# Altium schematic symbol library IIOT_GATEWAY_MT7621.SCHLIB: 180 symbols (part 2 of 2)
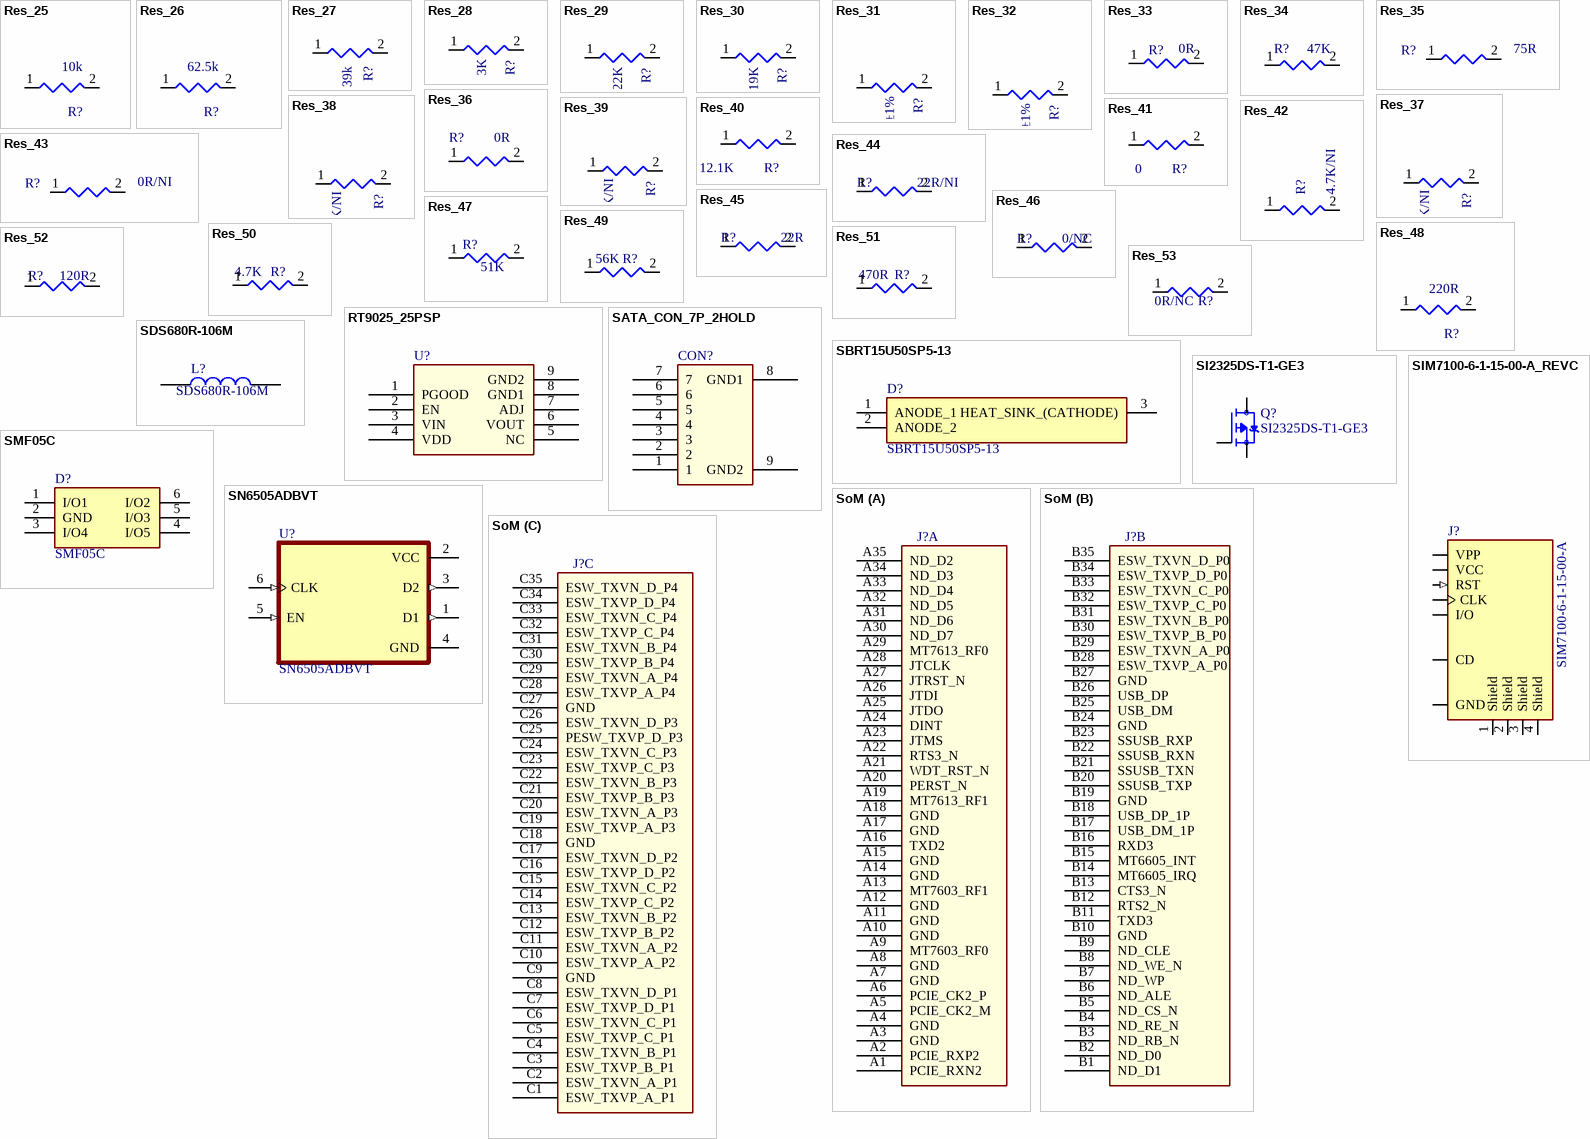
[diagram p5: symbols Res_25 to SoM]

## SIM7100-6-1-15-00-A_REVC
designator J?, comment SIM7100-6-1-15-00-A
7 _6 + 1_ Position Card Connector Micro SIM Surface Mount, Right Angle Gold; MF: Global Connector Technology; Package: None; Availability: Unavailable; SnapEDA_Link: https://www.snapeda.com/parts/SIM7100-6-1-15-00-A/Global%20Connector%20Technology/view-part/449163/?ref=snap; MP: SIM7100-6-1-15-00-A; Price: None; Value: *
footprint GCT_SIM7100-6-1-15-00-A_REVC
pins: 1 Shield, 2 Shield, 3 Shield, 4 Shield, C1 VCC (power), C2 RST (in), C3 CLK (io), C5 GND (power), C6 VPP (power), C7 I/O (io), CD

## SMF05C
designator D?
Diode; Manufacturer_Name: SEMTECH; Datasheet Link: https://semtech.my.salesforce.com/sfc/p/E0000000JelG/a/2R000000HTur/oh5IBNMxy439tUCWCfUixX8WnZBmvf43yHAHJowoBrc; Height: 1.1mm; Manufacturer_Part_Number: SMF05C
footprint SOT65P210X110-6N
pins: 1 I/O1, 2 GND, 3 I/O4, 4 I/O5, 5 I/O3, 6 I/O2

## SN6505ADBVT
designator U?
Low-noise, 1-A, 160-kHz transformer driver with soft start for isolated power supplies 6-SOT-23 -55 to 125; MF: Texas Instruments; Texas_Instruments-Purchase-URL: https://snapeda.com/shop?store=Texas+Instruments&id=779078; Value: *; Availability: Unavailable; SnapEDA_Link: https://www.snapeda.com/parts/SN6505ADBVT/Texas%20Instruments/view-part/779078/?ref=snap; Package: SOT-23-6 Texas Instruments; MP: SN6505ADBVT; Price: None; BuyPart: https://www.snapeda.com/parts/SN6505ADBVT/Texas%20Instruments/view-part/779078/?ref=eda
footprint SOT95P280X145-6N
pins: 1 D1 (out), 2 VCC (power), 3 D2 (out), 4 GND (power), 5 EN (in), 6 CLK (in)

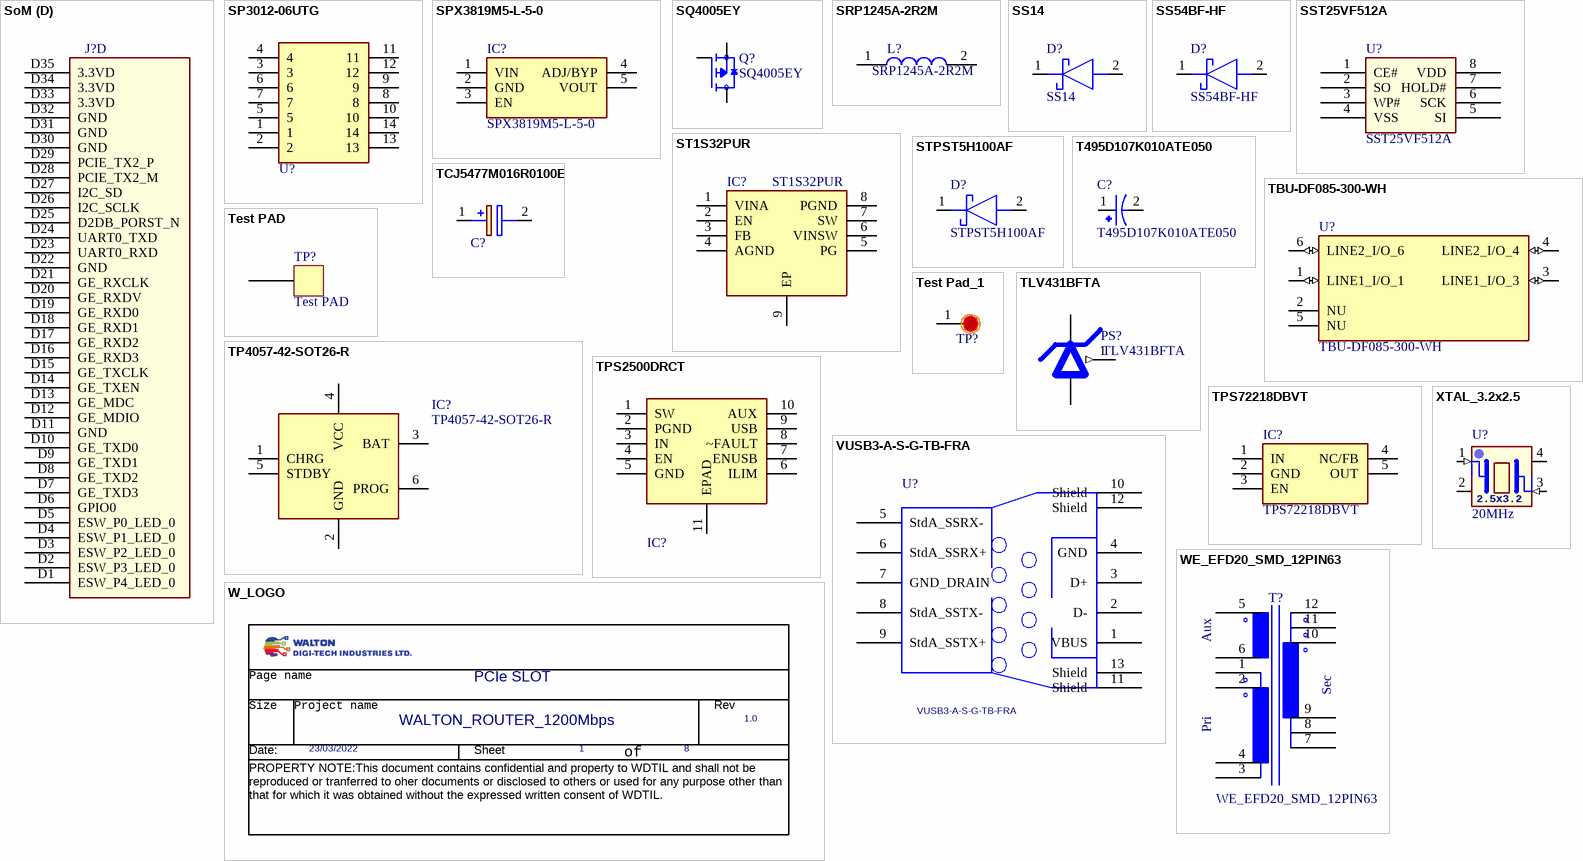
[diagram p4: symbols SoM to XTAL_3.2x2.5]

## SoM
designator J?  (value not drawn)
System: connector
footprint SoM (QFP, 140-Leads, Body 50.00x50.00mm, Pitch 1.27mm, IPC Medium Density)
part A pins: A1 PCIE_RXN2, A2 PCIE_RXP2, A3 GND, A4 GND, A5 PCIE_CK2_M, A6 PCIE_CK2_P, A7 GND, A8 GND, A9 MT7603_RF0, A10 GND, A11 GND, A12 GND, A13 MT7603_RF1, A14 GND, A15 GND, A16 TXD2, A17 GND, A18 GND, A19 MT7613_RF1, A20 PERST_N, A21 WDT_RST_N, A22 RTS3_N, A23 JTMS, A24 DINT, A25 JTDO, A26 JTDI, A27 JTRST_N, A28 JTCLK, A29 MT7613_RF0, A30 ND_D7, A31 ND_D6, A32 ND_D5, A33 ND_D4, A34 ND_D3, A35 ND_D2
part B pins: B1 ND_D1, B2 ND_D0, B3 ND_RB_N, B4 ND_RE_N, B5 ND_CS_N, B6 ND_ALE, B7 ND_WP, B8 ND_WE_N, B9 ND_CLE, B10 GND, B11 TXD3, B12 RTS2_N, B13 CTS3_N, B14 MT6605_IRQ, B15 MT6605_INT, B16 RXD3, B17 USB_DM_1P, B18 USB_DP_1P, B19 GND, B20 SSUSB_TXP, B21 SSUSB_TXN, B22 SSUSB_RXN, B23 SSUSB_RXP, B24 GND, B25 USB_DM, B26 USB_DP, B27 GND, B28 ESW_TXVP_A_P0, B29 ESW_TXVN_A_P0, B30 ESW_TXVP_B_P0, B31 ESW_TXVN_B_P0, B32 ESW_TXVP_C_P0, B33 ESW_TXVN_C_P0, B34 ESW_TXVP_D_P0, B35 ESW_TXVN_D_P0
part C pins: C1 ESW_TXVP_A_P1, C2 ESW_TXVN_A_P1, C3 ESW_TXVP_B_P1, C4 ESW_TXVN_B_P1, C5 ESW_TXVP_C_P1, C6 ESW_TXVN_C_P1, C7 ESW_TXVP_D_P1, C8 ESW_TXVN_D_P1, C9 GND, C10 ESW_TXVP_A_P2, C11 ESW_TXVN_A_P2, C12 ESW_TXVP_B_P2, C13 ESW_TXVN_B_P2, C14 ESW_TXVP_C_P2, C15 ESW_TXVN_C_P2, C16 ESW_TXVP_D_P2, C17 ESW_TXVN_D_P2, C18 GND, C19 ESW_TXVP_A_P3, C20 ESW_TXVN_A_P3, C21 ESW_TXVP_B_P3, C22 ESW_TXVN_B_P3, C23 ESW_TXVP_C_P3, C24 ESW_TXVN_C_P3, C25 PESW_TXVP_D_P3, C26 ESW_TXVN_D_P3, C27 GND, C28 ESW_TXVP_A_P4, C29 ESW_TXVN_A_P4, C30 ESW_TXVP_B_P4, C31 ESW_TXVN_B_P4, C32 ESW_TXVP_C_P4, C33 ESW_TXVN_C_P4, C34 ESW_TXVP_D_P4, C35 ESW_TXVN_D_P4
part D pins: D1 ESW_P4_LED_0, D2 ESW_P3_LED_0, D3 ESW_P2_LED_0, D4 ESW_P1_LED_0, D5 ESW_P0_LED_0, D6 GPIO0, D7 GE_TXD3, D8 GE_TXD2, D9 GE_TXD1, D10 GE_TXD0, D11 GND, D12 GE_MDIO, D13 GE_MDC, D14 GE_TXEN, D15 GE_TXCLK, D16 GE_RXD3, D17 GE_RXD2, D18 GE_RXD1, D19 GE_RXD0, D20 GE_RXDV, D21 GE_RXCLK, D22 GND, D23 UART0_RXD, D24 UART0_TXD, D25 D2DB_PORST_N, D26 I2C_SCLK, D27 I2C_SD, D28 PCIE_TX2_M, D29 PCIE_TX2_P, D30 GND, D31 GND, D32 GND, D33 3.3VD, D34 3.3VD, D35 3.3VD

## SP3012-06UTG
designator U?, comment SP3011-06UTG  (value not drawn)
7V _Typ_ Clamp 4A _8/20Âµs_ Ipp Tvs Diode Surface Mount 14-UDFN _3.5x1.35_; MP: SP3012-06UTG; MF: Littelfuse Inc.; Price: None; Availability: Unavailable; Package: UDFN-14 Littelfuse; SnapEDA_Link: https://www.snapeda.com/parts/SP3012-06UTG/Littelfuse%20Inc./view-part/481186/?ref=snap; Value: *
footprint SON50P350X135X55-14N
pins: 1, 2, 3, 4, 5, 6, 7, 8, 9, 10, 11, 12, 13, 14

## SPX3819M5-L-5-0
designator IC?
Integrated Circuit; Manufacturer_Name: EXAR; Datasheet Link: http://www.farnell.com/datasheets/1829986.pdf; Height: 1.45mm; Manufacturer_Part_Number: SPX3819M5-L-5-0; Arrow Part Number: SPX3819M5-L-5-0; Arrow Price/Stock: https://www.arrow.com/en/products/spx3819m5-l-5-0/exar
footprint SOT95P280X145-5N
pins: 1 VIN, 2 GND, 3 EN, 4 ADJ/BYP, 5 VOUT

## SQ4005EY
designator Q?
MOSFET P Ch -12Vds 8Vgs
footprint SOIC127P600X175-8N
pins: 1 S, 2 S, 3 S, 4 G, 5 D, 6 D, 7 D, 8 D

## SRP1245A-2R2M
designator L?
Inductor 2.2uH; Manufacturer_Name: Bourns; Datasheet Link: https://www.bourns.com/docs/Product-Datasheets/SRP1245A.pdf; Height: 5mm; Manufacturer_Part_Number: SRP1245A-2R2M; Mouser Part Number: 652-SRP1245A-2R2M; Mouser Price/Stock: https://www.mouser.co.uk/ProductDetail/Bourns/SRP1245A-2R2M?qs=7z%252BmIopC6%2FIfpuWA3q0S0Q%3D%3D; Arrow Part Number: SRP1245A-2R2M; Arrow Price/Stock: https://www.arrow.com/en/products/srp1245a-2r2m/bourns?region=nac
footprint INDPM135125X500N
pins: 1, 2

## SS14
designator D?
Schottky Diode; Manufacturer_Name: MULTICOMP; Datasheet Link: https://componentsearchengine.com/Datasheets/2/SS14.pdf; Height: 2.61mm; Manufacturer_Part_Number: SS14
footprint DIOM5127X261N
pins: 1 K, 2 A

## SS54BF-HF
designator D?
Schottky Diode; Manufacturer_Name: Comchip Technology; Datasheet Link: https://www.mouser.co.uk/datasheet/2/80/20190807092834-2504956.pdf; Height: 1.3mm; Manufacturer_Part_Number: SS54BF-HF; Mouser Part Number: 750-SS54BF-HF; Mouser Price/Stock: https://www.mouser.co.uk/ProductDetail/Comchip-Technology/SS54BF-HF?qs=GBLSl2AkirsPcLFwlU2Ctg%3D%3D; Arrow Part Number: SS54BF-HF; Arrow Price/Stock: https://www.arrow.com/en/products/ss54bf-hf/comchip-technology?region=nac
footprint SODFL5336X130N (Footprint not found)
pins: 1 K, 2 A

## SST25VF512A
designator U?
512 Kbit SPI Serial Flash
footprint SO-8
pins: 1 CE#, 2 SO, 3 WP#, 4 VSS, 5 SI, 6 SCK, 7 HOLD#, 8 VDD

## ST1S32PUR
designator IC?
Integrated Circuit; Manufacturer_Name: STMicroelectronics; Datasheet Link: http://www.st.com/web/en/resource/technical/document/datasheet/DM00056321.pdf; Height: 1mm; Manufacturer_Part_Number: ST1S32PUR; Mouser Part Number: 511-ST1S32PUR; Mouser Price/Stock: https://www.mouser.co.uk/ProductDetail/STMicroelectronics/ST1S32PUR?qs=gNDSiZmRJS9JfBN%2Fr%252BmKGQ%3D%3D; Arrow Part Number: ST1S32PUR; Arrow Price/Stock: https://www.arrow.com/en/products/st1s32pur/stmicroelectronics?region=europe
footprint SON80P400X400X100-9N-D (Footprint not found)
pins: 1 VINA, 2 EN, 3 FB, 4 AGND, 5 PG, 6 VINSW, 7 SW, 8 PGND, 9 EP

## STPST5H100AF
designator D?
Schottky Diode; Manufacturer_Name: STMicroelectronics; Datasheet Link: https://www.st.com/resource/en/datasheet/stpst5h100.pdf; Height: 1.03mm; Manufacturer_Part_Number: STPST5H100AF; Mouser Part Number: 511-STPST5H100AF; Mouser Price/Stock: https://www.mouser.co.uk/ProductDetail/STMicroelectronics/STPST5H100AF?qs=Jm2GQyTW%2Fbg40alT%252BULHUw%3D%3D
footprint SODFL4724X103N
pins: 1 K, 2 A

## T495D107K010ATE050
designator C?
Cap Tant Solid 100uF 10V D CASE 10% (7.3 X 4.3 X 2.8mm) SMD 7343-31 0.05 Ohm 125°C T/R; Manufacturer: KEMET; ESR (Equivalent Series Resistance): 50mR; Polarity: Polar; Life (Hours): 2000Hour; Dissipation Factor: 8%; Supplier 1: Newark; Manufacturer Part Number: T495D107K010ATE050; RoHS: Yes; Category: Tantalum Capacitors; Stock 1: 224; Pricing 1: 1=2.46000, 10=2.00000, 25=1.84000, 50=1.69000, 100=1.53000 (USD); Mount: Surface Mount; Case/Package: 2917; Number of Pins: 2; Case Code (Imperial): 2917; Case Code (Metric): 7343; Min Operating Temperature: -55°C; Max Operating Temperature: 125°C; Packaging: Tape and Reel; Capacitance: 100uF; Tolerance: 10%; Voltage Rating: 10V; Package Quantity: 500; Termination: SMD/SMT; Voltage Rating (DC): 10V; Features: General Purpose; Series: T495; Construction: Flat; Length: 7.3mm; Width: 4.3mm; Height: 3.1mm; Height - Seated (Max): 0.122inch; Depth: 4.3mm; Radiation Hardening: No; REACH SVHC: No SVHC; RoHS Compliant: Yes; ComponentLink1URL: http://www.farnell.com/datasheets/2319914.pdf?src-supplier=Farnell; ComponentLink1Description: http://www.farnell.com/datasheets/2319914.pdf?src-supplier=Farnell; ComponentLink2URL: http://www.mouser.com/ds/2/212/KEM_T2071_T495_COTS-1104607.pdf?src-supplier=Mouser; ComponentLink2Description: http://www.mouser.com/ds/2/212/KEM_T2071_T495_COTS-1104607.pdf?src-supplier=Mouser; ComponentLink3URL: http://www.farnell.com/datasheets/2015705.pdf?src-supplier=Farnell; ComponentLink3Description: http://www.farnell.com/datasheets/2015705.pdf?src-supplier=Farnell; ComponentLink4URL: http://www.farnell.com/datasheets/2015705.pdf?src-supplier=Element14; ComponentLink4Description: http://www.farnell.com/datasheets/2015705.pdf?src-supplier=Element14; ComponentLink5URL: https://api.kemet.com/component-edge/download/datasheet/T495D107K010ASE100.pdf?src-supplier=Digi-Key; ComponentLink5Description: https://api.kemet.com/component-edge/download/datasheet/T495D107K010ASE100.pdf?src-supplier=Digi-Key; ComponentLink6URL: http://www.kemet.com/Lists/ProductCatalog/Attachments/261/KEM_T2009_T495.pdf?src-supplier=Avnet; ComponentLink6Description: http://www.kemet.com/Lists/ProductCatalog/Attachments/261/KEM_T2009_T495.pdf?src-supplier=Avnet; ComponentLink7URL: http://www.kemet.com/kemet/web/homepage/kechome.nsf/weben/1AABD97F96BDDBDA8525795A0050FFCA/$file/KEM_T2009_T495.pdf?src-supplier=Avnet; ComponentLink7Description: http://www.kemet.com/kemet/web/homepage/kechome.nsf/weben/1AABD97F96BDDBDA8525795A0050FFCA/$file/KEM_T2009_T495.pdf?src-supplier=Avnet; ComponentLink8URL: http://www.farnell.com/datasheets/2319914.pdf?src-supplier=Newark; ComponentLink8Description: http://www.farnell.com/datasheets/2319914.pdf?src-supplier=Newark; ComponentLink9URL: http://components.arrow.com/part/dataview/44988739S8665845N7429?src-supplier=Arrow+Electronics; ComponentLink9Description: http://components.arrow.com/part/dataview/44988739S8665845N7429?src-supplier=Arrow+Electronics; Supplier Part Number 1: 77Y7860
footprint CAP_4TAE470ML
pins: 1, 2

## TBU-DF085-300-WH
designator U?
DUAL BI-DIR TBU 850V 300MA; MF: Bourns Inc.; SnapEDA_Link: https://www.snapeda.com/parts/TBU-DF085-300-WH/Bourns/view-part/?ref=snap; Availability: In Stock; Purchase-URL: https://pricing.snapeda.com/search/part/TBU-DF085-300-WH/?ref=eda; Check_prices: https://www.snapeda.com/parts/TBU-DF085-300-WH/Bourns/view-part/?ref=eda; Value: *; Package: TDFN-6 Bourns Inc.; MP: TBU-DF085-300-WH; Price: None
footprint IC_TBU-DF085-300-WH
pins: 1 LINE1_I/O_1 (io), 2 NU, 3 LINE1_I/O_3 (io), 4 LINE2_I/O_4 (io), 5 NU, 6 LINE2_I/O_6 (io)

## TCJ5477M016R0100E
designator C?, comment TCJ5477M016R0100E/NI  (value not drawn)
Capacitor Polarised; Manufacturer_Name: AVX; Datasheet Link: https://datasheets.kyocera-avx.com/TCJ.pdf; Height: 4mm; Manufacturer_Part_Number: TCJ5477M016R0100E; Mouser Part Number: 581-TCJ5477M016R100E; Mouser Price/Stock: https://www.mouser.co.uk/ProductDetail/AVX/TCJ5477M016R0100E?qs=hWgE7mdIu5QV3CO1kSXQRw%3D%3D
footprint CAPPM7344X400N
pins: 1 +, 2 -

## Test PAD
designator TP?
footprint Test PAD
pins: 1

## Test Pad_1
designator TP?, comment TP  (value not drawn)
footprint TP_SMD
pins: 1

## TLV431BFTA
designator PS?
Power Supply; Manufacturer_Name: Diodes Inc.; Datasheet Link: https://www.diodes.com/assets/Datasheets/TLV431.pdf; Height: 1mm; Manufacturer_Part_Number: TLV431BFTA; Mouser Part Number: 621-TLV431BFTA; Mouser Price/Stock: https://www.mouser.co.uk/ProductDetail/Diodes-Incorporated/TLV431BFTA?qs=nSryOFbzj8KLzVR2LsCcOA%3D%3D; Arrow Part Number: TLV431BFTA; Arrow Price/Stock: https://www.arrow.com/en/products/tlv431bfta/diodes-incorporated?region=europe
footprint SOT96P240X100-3N
pins: 1 REF (out), 2 CATHODE (power), 3 ANODE (power)

## TP4057-42-SOT26-R
designator IC?
Integrated Circuit; Manufacturer_Name: Nanjing Extension Microelectronics; Datasheet Link: https://datasheet.lcsc.com/szlcsc/Nanjing-Extension-Microelectronics-TP4057_C12044.pdf; Height: 1.25mm; Manufacturer_Part_Number: TP4057-42-SOT26-R
footprint SOT95P280X125-6N
pins: 1 CHRG, 2 GND, 3 BAT, 4 VCC, 5 STDBY, 6 PROG

## TPS2500DRCT
designator IC?  (value not drawn)
Integrated Circuit; Manufacturer_Name: Texas Instruments; Datasheet Link: http://www.ti.com/lit/gpn/TPS2500; Manufacturer_Part_Number: TPS2500DRCT; Mouser Part Number: 595-TPS2500DRCT; Mouser Price/Stock: https://www.mouser.co.uk/ProductDetail/Texas-Instruments/TPS2500DRCT?qs=IK5e5L0zOXg4%252Be3iAH4kIA%3D%3D; Arrow Part Number: TPS2500DRCT; Arrow Price/Stock: https://www.arrow.com/en/products/tps2500drct/texas-instruments
footprint SON50P300X300X100-11N
pins: 1 SW, 2 PGND, 3 IN, 4 EN, 5 GND, 6 ILIM, 7 ENUSB, 8 ~FAULT, 9 USB, 10 AUX, 11 EPAD

## TPS72218DBVT
designator IC?
Integrated Circuit; Manufacturer_Name: Texas Instruments; Datasheet Link: http://www.ti.com/lit/gpn/tps722; Height: 1.45mm; Manufacturer_Part_Number: TPS72218DBVT; Mouser Part Number: 595-TPS72218DBVT; Mouser Price/Stock: https://www.mouser.co.uk/ProductDetail/Texas-Instruments/TPS72218DBVT?qs=Gse6rAGbi7%2F5%252BPwDKEmoQQ%3D%3D; Arrow Part Number: TPS72218DBVT; Arrow Price/Stock: https://www.arrow.com/en/products/tps72218dbvt/texas-instruments
footprint SOT95P280X145-5N
pins: 1 IN, 2 GND, 3 EN, 4 NC/FB, 5 OUT

## VUSB3-A-S-G-TB-FRA
designator U?
USB 3 Type A Right Angle Vertical Socket
footprint VALCON_VUSB3-A-S-G-TB-FRA
pins: 1 VBUS, 2 D-, 3 D+, 4 GND, 5 StdA_SSRX-, 6 StdA_SSRX+, 7 GND_DRAIN, 8 StdA_SSTX-, 9 StdA_SSTX+, 10 Shield, 11 Shield, 12 Shield, 13 Shield

## W_LOGO
designator *??  Page Number: 1  Page Count: 8  Page Modify Date: 23/03/2022  Doc: WALTON_ROUTER_1200Mbps  RevCode: 1.0  Title: PCIe SLOT  (hidden comment: W_LOGO)  (graphical)
text: Page name; Size; Project name; Rev; Date:; Sheet; of; PROPERTY NOTE:This document contains confidential and property to WDTIL and shall not be reproduced or tranferred to oher documents or disclosed to others or used for any purpose other than that for which it was obtained without the expressed written consent of WDTIL.

## WE_EFD20_SMD_12PIN63
designator T?
Transformer; Manufacturer_Name: Wurth Elektronik; Manufacturer_Part_Number: 7491194912; Mouser Part Number: 710-7491194912; Mouser Price/Stock: https://www.mouser.co.uk/ProductDetail/Wurth-Elektronik/7491194912?qs=PGXP4M47uW77qoYmvw4NKA%3D%3D
footprint WE_EFD20_SMD_12PIN63
pins: 1, 2, 3, 4, 5, 6, 7, 8, 9, 10, 11, 12
text: Aux; Sec; Pri

## XTAL_3.2x2.5
designator U?, comment 20MHz
footprint XTAL_3.2x2.5
pins: 1 X1 (in), 2 NC, 3 X2 (in), 4 NC
text: 2.5x3.2